# EAGLE library part ULN2803C (library uln-udn)
DRIVER ARRAY
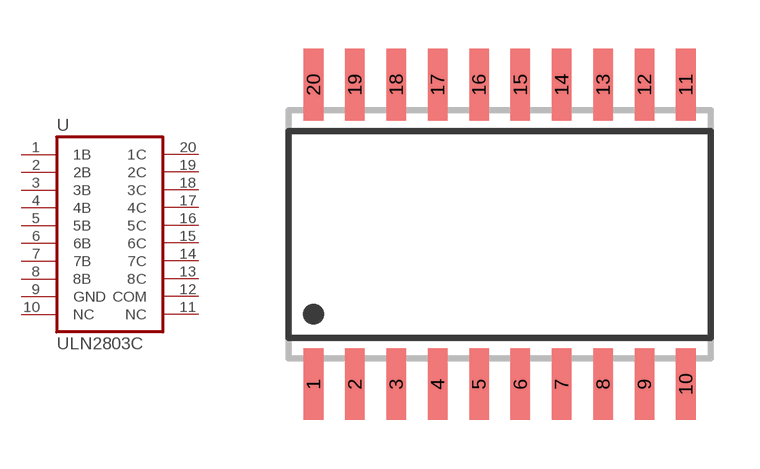
[diagram p27: symbol with the pads of SO20W; footprint SO20W]

Designator prefix U

## ULN2803C  [SO20W]
1  1B  in
2  2B  in
3  3B  in
4  4B  in
5  5B  in
6  6B  in
7  7B  in
8  8B  in
9  GND  pwr
10  NC  nc
11  NC  nc
12  COM  pas
13  8C  oc
14  7C  oc
15  6C  oc
16  5C  oc
17  4C  oc
18  3C  oc
19  2C  oc
20  1C  oc

## Footprint SO20W (pad centres in mm)
SMALL OUTLINE INTEGRATED CIRCUIT wide body 7.5 mm/JEDEC MS-013AC
smd 0.6 x 2.2: 1 -5.715,-4.6; 2 -4.445,-4.6; 3 -3.175,-4.6; 4 -1.905,-4.6; 5 -0.635,-4.6; 6 0.635,-4.6; 7 1.905,-4.6; 8 3.175,-4.6; 9 4.445,-4.6; 10 5.715,-4.6; 11 5.715,4.6; 12 4.445,4.6; 13 3.175,4.6; 14 1.905,4.6; 15 0.635,4.6; 16 -0.635,4.6; 17 -1.905,4.6; 18 -3.175,4.6; 19 -4.445,4.6; 20 -5.715,4.6